# Altium schematic symbol library ICs-RF.SchLib: 2 symbols
Pins are listed as number, name and electrical type; pins without a type are passive.

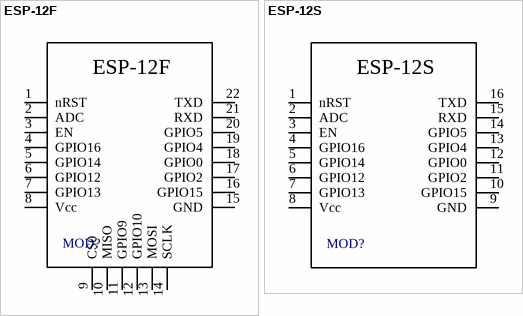
[diagram p0: symbols ESP-12F to ESP-12S]

## ESP-12F
designator MOD?
WiFi Module; MANUFACTURER: AI Thinker; MANUFACTURER #: ESP-12F; PART: ESP-12F; PART DESCRIPTION: WiFi Module
footprint ESP8266MOD
pins: 1 nRST, 2 ADC, 3 EN, 4 GPIO16, 5 GPIO14, 6 GPIO12, 7 GPIO13, 8 Vcc, 9 CS0, 10 MISO, 11 GPIO9, 12 GPIO10, 13 MOSI, 14 SCLK, 15 GND, 16 GPIO15, 17 GPIO2, 18 GPIO0, 19 GPIO4, 20 GPIO5, 21 RXD, 22 TXD

## ESP-12S
designator MOD?
WiFi Module; MANUFACTURER #: ESP-12S; PART: ESP-12S; PART DESCRIPTION: WiFi Module
footprint ESP-12S
pins: 1 nRST, 2 ADC, 3 EN, 4 GPIO16, 5 GPIO14, 6 GPIO12, 7 GPIO13, 8 Vcc, 9 GND, 10 GPIO15, 11 GPIO2, 12 GPIO0, 13 GPIO4, 14 GPIO5, 15 RXD, 16 TXD